# EAGLE library part LMR12010 (library 000_ICS)
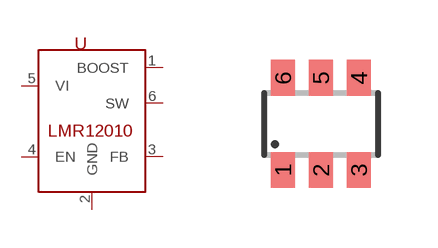
[diagram p6: symbol with the pads of SOT23-6; footprint SOT23-6]

Designator prefix U

## LMR12010  [SOT23-6]
1  BOOST
2  GND
3  FB
4  EN
5  VI
6  SW

## Footprint SOT23-6 (pad centres in mm)
Small Outline Transistor 6 lead
smd 0.6 x 0.9: 1 -0.95,-1.15; 2 0,-1.15; 3 0.95,-1.15; 4 0.95,1.15; 5 0,1.15; 6 -0.95,1.15